# EAGLE library part VS1053_MODULE (library InternetRadio)
MP3 Decoder
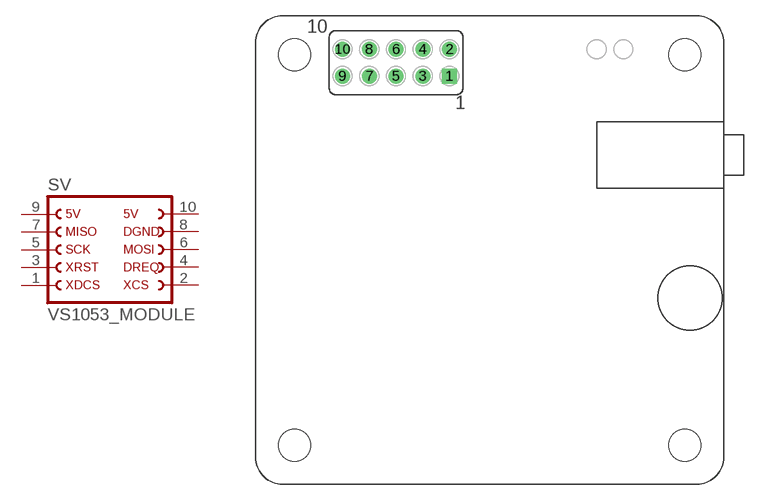
[diagram p3: symbol with the pads of VS1053_MODULE; footprint VS1053_MODULE]

Designator prefix SV

## VS1053_MODULE (OC_FARNELL: unknown; OC_NEWARK: unknown)  [VS1053_MODULE]
1  1  pas
2  2  pas
3  3  pas
4  4  pas
5  5  pas
6  6  pas
7  7  pas
8  8  pas
9  9  pas
10  10  pas

## Footprint VS1053_MODULE (pad centres in mm)
FEMALE HEADER
drill 0.914 square: 1 -3.81,16.51
drill 0.914: 2 -3.81,19.05; 3 -6.35,16.51; 4 -6.35,19.05; 5 -8.89,16.51; 6 -8.89,19.05; 7 -11.43,16.51; 8 -11.43,19.05; 9 -13.97,16.51; 10 -13.97,19.05
hole 3.048 at -18.542,18.542
hole 3.048 at -18.542,-18.542
hole 3.048 at 18.542,18.542
hole 3.048 at 18.542,-18.542